# Altium schematic symbol library IC-RADIO-XBEE.Schlib: 1 symbol
Pins are listed as number, name and electrical type; pins without a type are passive.

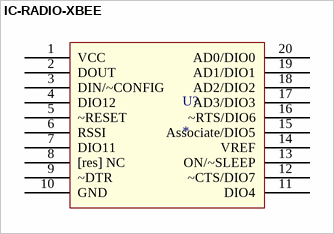
[diagram p0: symbol IC-RADIO-XBEE]

## IC-RADIO-XBEE
designator U?
CONN XBEE TH
pins: 1 VCC, 2 DOUT, 3 DIN/~CONFIG, 4 DIO12, 5 ~RESET, 6 RSSI, 7 DIO11, 8 [res] NC, 9 ~DTR, 10 GND, 11 DIO4, 12 ~CTS/DIO7, 13 ON/~SLEEP, 14 VREF, 15 Associate/DIO5, 16 ~RTS/DIO6, 17 AD3/DIO3, 18 AD2/DIO2, 19 AD1/DIO1, 20 AD0/DIO0